# EAGLE library part AD8244 (library AD8244)
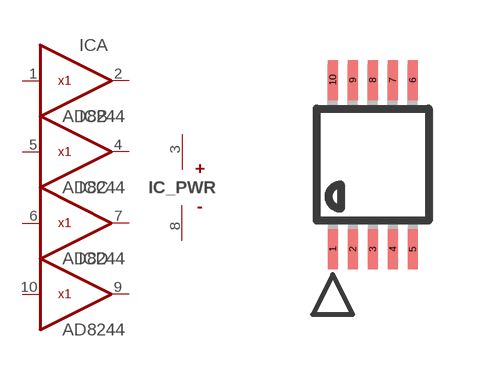
[diagram p0: symbol with the pads of MSOP10; footprint MSOP10]

Designator prefix IC; gates A=BUF602 B=BUF602 C=BUF602 D=BUF602 _PWR=PWR

## AD8244ARMZ  [MSOP10]
1  A:IN  in
2  A:OUT  out
3  _PWR:V+  pwr
4  B:OUT  out
5  B:IN  in
6  C:IN  in
7  C:OUT  out
8  _PWR:V-  pwr
9  D:OUT  out
10  D:IN  in

## Footprint MSOP10 (pad centres in mm)
10-Lead Mini Small Outline Package [MSOP]
smd 0.25 x 1: 1 -1,-2.113; 2 -0.5,-2.113; 3 0,-2.113; 4 0.5,-2.113; 5 1,-2.113; 6 1,2.113; 7 0.5,2.113; 8 0,2.113; 9 -0.5,2.113; 10 -1,2.113